# Altium schematic symbol library BBB_Board.SchLib: 12 symbols
Pins are listed as number, name and electrical type; pins without a type are passive.

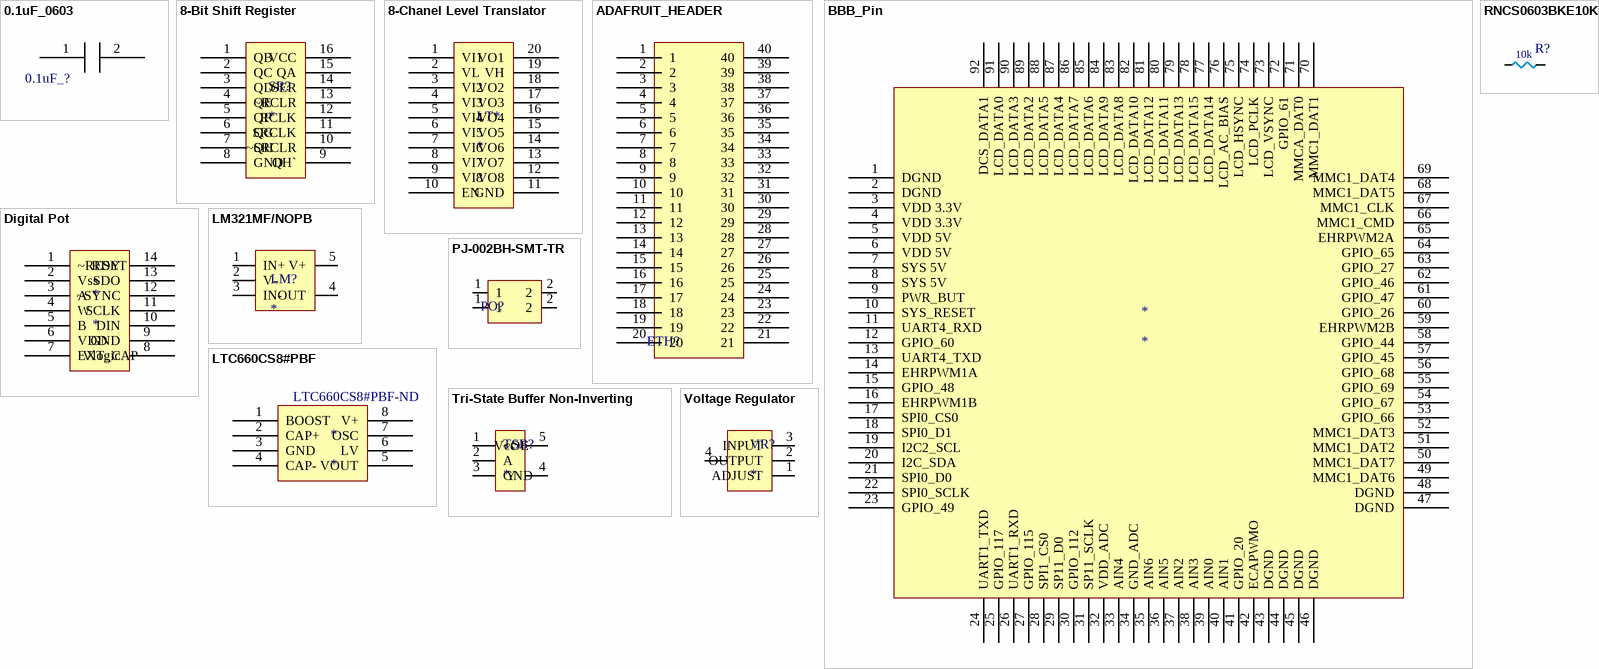
[diagram p0: symbols 0.1uF_0603 to Voltage Regulator]

## 0.1uF_0603
designator 0.1uF_?
footprint 0.1uF_0603
pins: 1, 2

## 8-Bit Shift Register
designator SR?
Supplier 1: Digi-Key; Supplier Part Number 1: 296-4767-6-ND
footprint 8-bit_shiftreg (SOP, 16-Leads, Body 9.90x3.90mm, Pitch 1.27mm, IPC Medium Density)
pins: 1 QB, 2 QC, 3 QD, 4 QE, 5 QF, 6 QG, 7 QH, 8 GND, 9 QH`, 10 ~SRCLR, 11 SRCLK, 12 RCLK, 13 ~RCLR, 14 SER, 15 QA, 16 VCC

## 8-Chanel Level Translator
designator LT*
IC XLATR LEVEL BIDIR 8CH 20TSSOP; Manufacturer: Maxim Integrated; Manufacturer Part Number: MAX3008EUP+; Translator Type: Voltage Level; Channel Type: Unidirectional; Number of Circuits: 1; Channels per Circuit: 8; Voltage - VCCA: 1.2 V ~ 5.5 V; Voltage - VCCB: 1.65 V ~ 5.5 V; Output Type: Tri-State, Non-Inverted; Data Rate: 35Mbps; Supplier 1: Digi-Key; RoHS: RoHS Compliant; Category: Integrated Circuits (ICs); Stock 1: 36; Pricing 1: 1=3.17, 10=3.012, 25=2.81, 50=2.7158 (USD); Packaging: Tube; Input Signal: -; Output Signal: -; Operating Temperature: -40°C ~ 85°C (TA); Features: Power Supply Decoupling; Mounting Type: Surface Mount; Package / Case: 20-TSSOP (0.173", 4.40mm Width); Supplier Device Package: 20-TSSOP; ComponentLink1URL: http://datasheets.maximintegrated.com/en/ds/MAX3000E-MAX3012.pdf; ComponentLink1Description: http://datasheets.maximintegrated.com/en/ds/MAX3000E-MAX3012.pdf; Supplier Part Number 1: MAX3008EUP+-ND
footprint 8-bit_level
pins: 1 VI1, 2 VL, 3 VI2, 4 VI3, 5 VI4, 6 VI5, 7 VI6, 8 VI7, 9 VI8, 10 EN, 11 GND, 12 VO8, 13 VO7, 14 VO6, 15 VO5, 16 VO4, 17 VO3, 18 VO2, 19 VH, 20 VO1

## ADAFRUIT_HEADER
designator ETH?  (value not drawn)
Extra tall female header (SMD)
footprint FEMALE_HEADER_SMD
pins: 1, 2, 3, 4, 5, 6, 7, 8, 9, 10, 11, 12, 13, 14, 15, 16, 17, 18, 19, 20, 21, 22, 23, 24, 25, 26, 27, 28, 29, 30, 31, 32, 33, 34, 35, 36, 37, 38, 39, 40

## BBB_Pin
designator *
footprint BBB_Pin
pins: 1 DGND, 2 DGND, 3 VDD 3.3V, 4 VDD 3.3V, 5 VDD 5V, 6 VDD 5V, 7 SYS 5V, 8 SYS 5V, 9 PWR_BUT, 10 SYS_RESET, 11 UART4_RXD, 12 GPIO_60, 13 UART4_TXD, 14 EHRPWM1A, 15 GPIO_48, 16 EHRPWM1B, 17 SPI0_CS0, 18 SPI0_D1, 19 I2C2_SCL, 20 I2C_SDA, 21 SPI0_D0, 22 SPI0_SCLK, 23 GPIO_49, 24 UART1_TXD, 25 GPIO_117, 26 UART1_RXD, 27 GPIO_115, 28 SPI1_CS0, 29 SP11_D0, 30 GPIO_112, 31 SP11_SCLK, 32 VDD_ADC, 33 AIN4, 34 GND_ADC, 35 AIN6, 36 AIN5, 37 AIN2, 38 AIN3, 39 AIN0, 40 AIN1, 41 GPIO_20, 42 ECAPWMO, 43 DGND, 44 DGND, 45 DGND, 46 DGND, 47 DGND, 48 DGND, 49 MMC1_DAT6, 50 MMC1_DAT7, 51 MMC1_DAT2, 52 MMC1_DAT3, 53 GPIO_66, 54 GPIO_67, 55 GPIO_69, 56 GPIO_68, 57 GPIO_45, 58 GPIO_44, 59 EHRPWM2B, 60 GPIO_26, 61 GPIO_47, 62 GPIO_46, 63 GPIO_27, 64 GPIO_65, 65 EHRPWM2A, 66 MMC1_CMD, 67 MMC1_CLK, 68 MMC1_DAT5, 69 MMC1_DAT4, 70 MMC1_DAT1, 71 MMCA_DAT0, 72 GPIO_61, 73 LCD_VSYNC, 74 LCD_PCLK, 75 LCD_HSYNC, 76 LCD_AC_BIAS, 77 LCD_DATA14, 78 LCD_DATA15, 79 LCD_DATA13, 80 LCD_DATA11, 81 LCD_DATA12, 82 LCD_DATA10, 83 LCD_DATA8, 84 LCD_DATA9, 85 LCD_DATA6, 86 LCD_DATA7, 87 LCD_DATA4, 88 LCD_DATA5, 89 LCD_DATA2, 90 LCD_DATA3, 91 LCD_DATA0, 92 DCS_DATA1

## Digital Pot
designator *
IC DGTL POT 1024POS 20K 14TSSOP; Manufacturer: Analog Devices Inc.; Manufacturer Part Number: AD5293BRUZ-20; Configuration: Potentiometer; Number of Circuits: 1; Number of Taps: 1024; Interface: SPI; Memory Type: Volatile; Voltage - Supply: 9 V ~ 33 V, ±9 V ~ 16.5 V; Tolerance: ±7%; Temperature Coefficient (Typ): 35 ppm/°C; Resistance - Wiper (Ohms) (Typ): 60; Supplier 1: Digi-Key; RoHS: RoHS Compliant; Category: Integrated Circuits (ICs); Stock 1: 271; Pricing 1: 1=6.13, 96=5.27771, 192=4.5826, 576=3.99047, 1056=3.47558, 2592=3.34685, 5000=3.252 (USD); Packaging: Tube; Taper: Linear; Resistance (Ohms): 20k; Features: -; Operating Temperature: -40°C ~ 105°C; Package / Case: 14-TSSOP (0.173", 4.40mm Width); Supplier Device Package: 14-TSSOP; ComponentLink1URL: http://www.analog.com/media/en/technical-documentation/data-sheets/AD5293.pdf; ComponentLink1Description: http://www.analog.com/media/en/technical-documentation/data-sheets/AD5293.pdf; Supplier Part Number 1: AD5293BRUZ-20-ND
footprint Dig_Pot
pins: 1 ~RESET, 2 Vss, 3 A, 4 W, 5 B, 6 VDD, 7 EXT_CAP, 8 Vlogic, 9 GND, 10 DIN, 11 SCLK, 12 ~SYNC, 13 SDO, 14 RDY

## LM321MF/NOPB
designator LM?
IC OPAMP GP 1MHZ SOT23-5; Manufacturer: Texas Instruments; Manufacturer Part Number: LM321MF/NOPB; Amplifier Type: General Purpose; Number of Circuits: 1; Slew Rate: 0.4 V/µs; Current - Input Bias: 45nA; Voltage - Input Offset: 2mV; Current - Supply: 660µA; Current - Output / Channel: 40mA; Voltage - Supply, Single/Dual (±): 3 V ~ 30 V, ±1.5 V ~ 15 V; Supplier 1: Digi-Key; RoHS: RoHS Compliant; Category: Integrated Circuits (ICs); Stock 1: 14679; Pricing 1: 1=0.67, 10=0.573, 100=0.4277, 500=0.33596 (USD); Packaging: Cut Tape (CT); Output Type: -; Gain Bandwidth Product: 1MHz; -3db Bandwidth: -; Operating Temperature: -40°C ~ 85°C; Mounting Type: Surface Mount; Package / Case: SC-74A, SOT-753; Supplier Device Package: SOT-23-5; ComponentLink1URL: http://www.ti.com/lit/ds/symlink/lm321.pdf; ComponentLink1Description: http://www.ti.com/lit/ds/symlink/lm321.pdf; Supplier Part Number 1: LM321MF/NOPBCT-ND
footprint op_amp
pins: 1 IN+, 2 V-, 3 IN-, 4 OUT, 5 V+

## LTC660CS8#PBF
designator *  Supplier Part Number 1: LTC660CS8#PBF-ND
IC REG SWTCHD CAP INV 0.1A 8SOIC; Manufacturer: Linear Technology; Manufacturer Part Number: LTC660CS8#PBF; Function: Ratiometric; Output Configuration: Positive or Negative; Topology: Charge Pump; Output Type: Fixed; Number of Outputs: 1; Voltage - Input (Min): 1.5V, 2.5V; Voltage - Input (Max): 5.5V; Voltage - Output (Min/Fixed): -Vin, 2Vin, Vin/2; Current - Output: 100mA; Frequency - Switching: 10kHz, 80kHz; Synchronous Rectifier: No; Supplier 1: Digi-Key; RoHS: RoHS Compliant; Category: Integrated Circuits (ICs); Stock 1: 5170; Pricing 1: 1=5.53, 25=3.6704, 100=3.14 (USD); Packaging: Tube; Voltage - Output (Max): -; Operating Temperature: 0°C ~ 70°C (TA); Mounting Type: Surface Mount; Package / Case: 8-SOIC (0.154", 3.90mm Width); Supplier Device Package: 8-SOIC; ComponentLink1URL: http://www.linear.com/docs/1870; ComponentLink1Description: http://www.linear.com/docs/1870
footprint SOIC127P600X175-8N (SOIC, 8-Leads, Body 4.90x3.90mm, Pitch 1.27mm, IPC Medium Density)
pins: 1 BOOST, 2 CAP+, 3 GND, 4 CAP-, 5 VOUT, 6 LV, 7 OSC, 8 V+

## PJ-002BH-SMT-TR
designator PO?  (value not drawn)
CONN POWER JACK 2.5X5.5MM HI CUR; Manufacturer: CUI Inc; Manufacturer Part Number: PJ-002BH-SMT-TR; Gender: Male; Plug/Mating Plug Diameter: 2.5mm ID, 5.5mm OD; Number of Positions/Contacts: 2 Conductors, 3 Contacts; Internal Switch(s): Single Switch, Normally Closed; Shielding: Unshielded; Voltage - Rated: 24VDC; Current Rating: 5A; Supplier 1: Digi-Key; RoHS: RoHS Compliant; Category: Connectors, Interconnects; Stock 1: 6300; Pricing 1: 350=0.8588, 700=0.8136, 1050=0.7232, 1750=0.6554, 2450=0.60116, 8750=0.5763, 17500=0.565 (USD); Connector Type: Jack; Mounting Type: Surface Mount, Right Angle; Termination: Solder; Features: -; Color: Black; Contact Material: Copper Alloy; Contact Material - Plating: Nickel; Housing Color: Black; Housing Material: Thermoplastic; Operating Temperature: -25°C ~ 85°C; ComponentLink1URL: http://www.cui.com/product/resource/digikeypdf/pj-002bh-smt.pdf; ComponentLink1Description: http://www.cui.com/product/resource/digikeypdf/pj-002bh-smt.pdf; Supplier Part Number 1: CP-002BHPJTR-ND
footprint CP-002BHPJCT-ND (Footprint not found)
pins: 1, 1, 2, 2

## RNCS0603BKE10K0
designator R?  Resistance (Ohms): 10k  (hidden comment: *)
RES 10K OHM 1/16W 0.1% 0603; Manufacturer: Stackpole Electronics Inc; Manufacturer Part Number: RNCS0603BKE10K0; Power (Watts): 0.063W, 1/16W; Temperature Coefficient: ±25ppm/°C; Supplier 1: Digi-Key; RoHS: RoHS Compliant; Category: Resistors; Stock 1: 32000; Pricing 1: 1000=0.08, 2000=0.075, 5000=0.0675, 10000=0.066, 25000=0.06375, 50000=0.0625, 100000=0.0619 (USD); Packaging: Tape & Reel (TR); Tolerance: ±0.1%; Composition: Thin Film; Features: Anti-Corrosive, Moisture Resistant; Package / Case: 0603 (1608 Metric); Supplier Device Package: 0603; Size / Dimension: 0.061" L x 0.031" W (1.55mm x 0.80mm); Height: 0.022" (0.55mm); Number of Terminations: 2; ComponentLink1URL: http://www.seielect.com/catalog/SEI-RNCS.pdf; ComponentLink1Description: http://www.seielect.com/catalog/SEI-RNCS.pdf; Supplier Part Number 1: RNCS0603BKE10K0TR-ND
footprint 0.1uF_0603
pins: 1, 2

## Tri-State Buffer Non-Inverting
designator TSB?
IC BUFF DVR TRI-ST N-INV 5TSSOP; Manufacturer: NXP Semiconductors; Manufacturer Part Number: 74LVC1G125GW,125; Logic Type: Buffer/Line Driver, Non-Inverting; Number of Elements: 1; Current - Output High, Low: 32mA, 32mA; Voltage - Supply: 1.65 V ~ 5.5 V; Supplier 1: Digi-Key; RoHS: RoHS Compliant; Category: Integrated Circuits (ICs); Stock 1: 56738; Pricing 1: 1=0.29, 10=0.235, 100=0.1244, 500=0.08184, 1000=0.05576 (USD); Packaging: Cut Tape (CT); Number of Bits per Element: 1; Operating Temperature: -40°C ~ 125°C; Mounting Type: Surface Mount; Package / Case: 5-TSSOP, SC-70-5, SOT-353; Supplier Device Package: 5-TSSOP; ComponentLink1URL: http://www.nxp.com/documents/data_sheet/74LVC1G125.pdf; ComponentLink1Description: http://www.nxp.com/documents/data_sheet/74LVC1G125.pdf; Supplier Part Number 1: 568-3005-1-ND
footprint tri_state
pins: 1 ~OE, 2 A, 3 GND, 4 Y, 5 Vcc

## Voltage Regulator
designator VR?
IC REG LDO ADJ 1.5A DDPAK; Manufacturer: Texas Instruments; Manufacturer Part Number: LM317KTTR; Regulator Topology: Positive Adjustable; Voltage - Output: 1.25 V ~ 37 V; Number of Regulators: 1; Voltage - Input: 4.2 V ~ 40 V; Supplier 1: Digi-Key; RoHS: RoHS Compliant; Category: Integrated Circuits (ICs); Stock 1: 23750; Pricing 1: 1=0.93, 10=0.816, 100=0.624 (USD); Packaging: Cut Tape (CT); Current - Output: 1.5A; Voltage - Dropout (Typical): -; Current - Limit (Min): -; Operating Temperature: 0°C ~ 125°C; Mounting Type: Surface Mount; Package / Case: TO-263-4, D²Pak (3 Leads + Tab), TO-263AA; Supplier Device Package: DDPAK/TO-263-3; ComponentLink1URL: http://www.ti.com/lit/ds/symlink/lm317.pdf; ComponentLink1Description: http://www.ti.com/lit/ds/symlink/lm317.pdf; Supplier Part Number 1: 296-21390-1-ND
footprint volt_reg (SOT223, 4-Leads, Body 6.50x7.00mm (avg), Pitch 2.30mm, IPC Medium Density)
pins: 1 ADJUST, 2 OUTPUT, 3 INPUT, 4 Output